# EAGLE library part SN7517BD (library dviid)
The SN75176B and SN65176B are differential bus transceivers RS485/RS422.
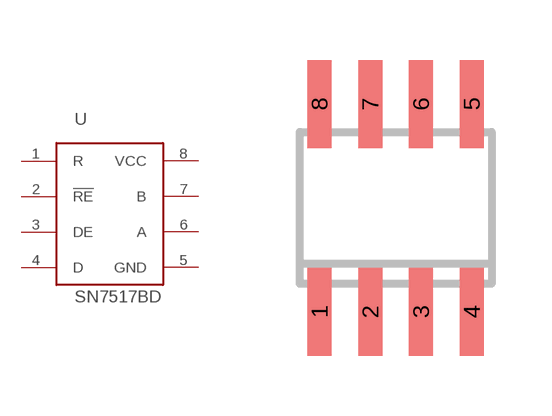
[diagram p12: symbol with the pads of SOIC8; footprint SOIC8]

Designator prefix -

## SN7517BD  [SOIC8]
1  R  in
2  !RE  in
3  DE  in
4  D  out
5  GND  pwr
6  A
7  B
8  VCC  pwr

## Footprint SOIC8 (pad centres in mm)
smd 0.6 x 2.2: 1 -1.905,-2.6; 2 -0.635,-2.6; 3 0.635,-2.6; 4 1.905,-2.6; 5 1.905,2.6; 6 0.635,2.6; 7 -0.635,2.6; 8 -1.905,2.6